# Altium footprint library DCP.PcbLib: 1 footprints
Each footprint in its own frame and in the unit in brackets; x right, y up, seen from the top. Pads: shape width x height; smd on the part's side, far side on the other; paste and mask are expansions set on the pad; w line width, h text height; cw(c..) or ccw(c..) is an arc to the next point about the centre after c.
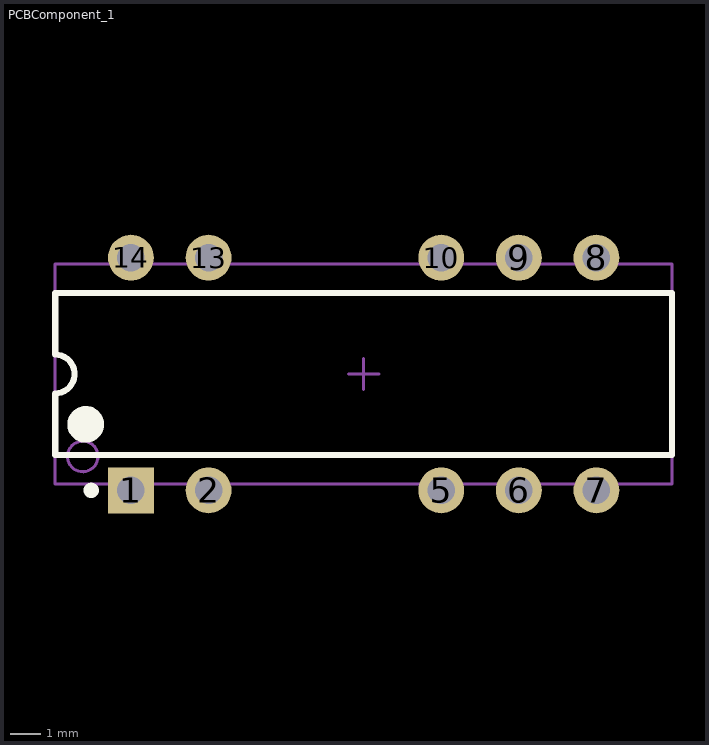
[diagram p0: the footprint, top view; thin cyan lines are the x and y axes]

## PCBComponent_1 [mm]
pads (14):
  rect 1.5x1.5 hole 0.9: 1(-868.68,-748.411)
  round 1.5 hole 0.9: 2(-866.14,-748.411) 5(-858.52,-748.411) 6(-855.98,-748.411) 7(-853.44,-748.411) 8(-853.44,-740.791) 9(-855.98,-740.791) 10(-858.52,-740.791) 13(-866.14,-740.791) 14(-868.68,-740.791)
  round 0 all layers, no hole: 3(-863.6,-748.411) 4(-861.06,-748.411) 11(-861.06,-740.791) 12(-863.6,-740.791)
Top Overlay:
  circle w0.25: c-869.98,-748.411 r0.125
  circle w0.6: c-870.16,-746.251 r0.3
  lines w0.2: -871.16,-747.251 -850.96,-747.251 -850.96,-741.951 -871.16,-741.951 -871.16,-743.966 cw(c-871.16,-744.601) -871.16,-745.236 -871.16,-747.251
Mechanical 13:
  circle w0.1: c-870.26,-747.301 r0.5
  lines w0.1: -871.16,-748.201 -850.96,-748.201 -850.96,-741.001 -871.16,-741.001 -871.16,-748.201
Mechanical 15:
  lines w0.1: -861.56,-744.601 -860.56,-744.601 ; -861.06,-745.101 -861.06,-744.101
3D body: height 5.08, standoff 0, extent -871.16,-748.201 -850.96,-741.001